# Altium schematic symbol library RCA.Schlib: 1 symbol
Pins are listed as number, name and electrical type; pins without a type are passive.

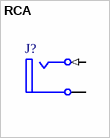
[diagram p0: symbol RCA]

## RCA
designator J?
RCA Phono Jack, Right Angle, Thru-Hole, Snap-In
pins: 1A Ground (power) "Outer Shield (Sleeve)", 2B Signal (in) "Center Pin (Plug Tip)"